# Altium footprint library TRAFO.PcbLib: 1 footprints
Each footprint in its own frame and in the unit in brackets; x right, y up, seen from the top. Pads: shape width x height; smd on the part's side, far side on the other; paste and mask are expansions set on the pad; w line width, h text height; cw(c..) or ccw(c..) is an arc to the next point about the centre after c.
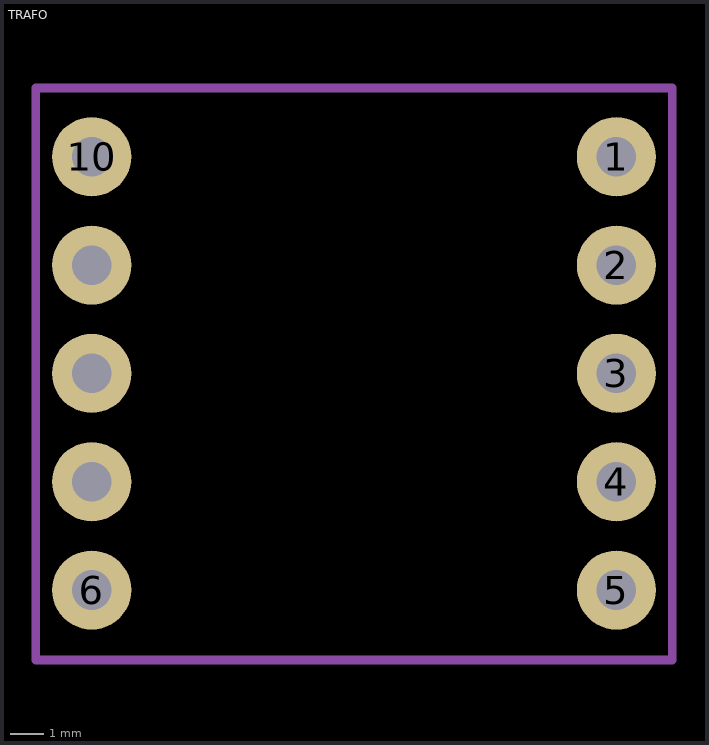
[diagram p0: the footprint, top view; thin cyan lines are the x and y axes]

## TRAFO [mm]
pads (10):
  round 2.34 hole 1.17: 1(28.962,21.463) 2(28.962,18.263) 3(28.962,15.063) 4(28.962,11.863) 5(28.962,8.663) 6(13.462,8.663) 10(13.462,21.463) ""(13.462,11.863) ""(13.462,15.063) ""(13.462,18.263)
Mechanical 13:
  lines w0.254: 11.811,6.595 11.811,23.495 30.611,23.495 30.611,6.595 11.811,6.595
3D body: height 0, standoff -2.54, extent 27.801,20.295 30.132,22.631
3D body: height 0, standoff -2.54, extent 27.801,17.095 30.132,19.431
3D body: height 0, standoff -2.54, extent 27.801,13.895 30.132,16.231
3D body: height 0, standoff -2.54, extent 27.801,10.695 30.132,13.031
3D body: height 0, standoff -2.54, extent 27.801,7.495 30.132,9.831
3D body: height 0, standoff -2.54, extent 12.301,7.495 14.632,9.831
3D body: height 0, standoff -2.54, extent 12.301,10.695 14.632,13.031
3D body: height 0, standoff -2.54, extent 12.301,13.895 14.632,16.231
3D body: height 0, standoff -2.54, extent 12.301,17.095 14.632,19.431
3D body: height 0, standoff -2.54, extent 12.301,20.295 14.632,22.631
3D body: height 15.85, standoff 2.54, extent 11.811,6.604 30.607,23.495